# Altium footprint library ZJYM130-CH1115.PcbLib: 3 footprints
Each footprint in its own frame and in the unit in brackets; x right, y up, seen from the top. Pads: shape width x height; smd on the part's side, far side on the other; paste and mask are expansions set on the pad; w line width, h text height; cw(c..) or ccw(c..) is an arc to the next point about the centre after c.
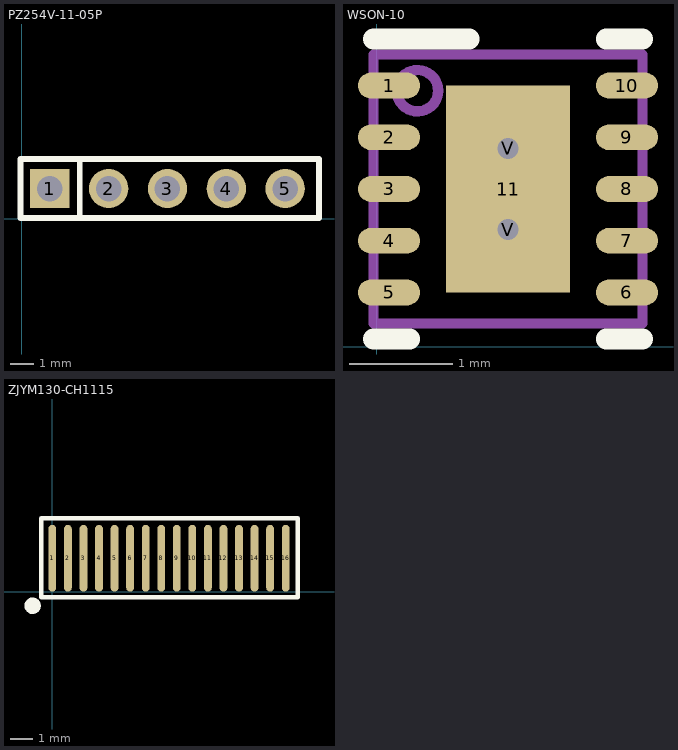
[diagram p0: the footprints below, top view; thin cyan lines are the x and y axes]

## PZ254V-11-05P [mm]
pads (5):
  rect 1.699x1.699 hole 1.1: 1(1.204,1.311)
  round 1.699 hole 1.1: 2(3.744,1.311) 3(6.284,1.311) 4(8.824,1.311) 5(11.364,1.311)
Top Overlay:
  lines w0.254: 2.497,0.041 2.497,2.581 ; 2.497,2.581 12.827,2.581 12.827,0.041 -0.066,0.041 -0.066,2.581 2.497,2.581
Mechanical 6:
  lines w0.051: -0.066,0.061 -0.066,2.56 12.827,2.56 12.827,0.061 -0.066,0.061
Mechanical 8:
  region: -0.005,0.061 -0.005,0.036 -0.041,0 -0.091,0 -0.127,0.036 -0.127,0.061 -0.127,0.086 -0.091,0.122 -0.041,0.122 -0.005,0.086
Mechanical 9:
  region: 0.884,1.631 1.524,1.631 1.524,0.991 0.884,0.991
  region: 3.424,1.631 4.064,1.631 4.064,0.991 3.424,0.991
  region: 5.964,1.631 6.604,1.631 6.604,0.991 5.964,0.991
  region: 8.504,1.631 9.144,1.631 9.144,0.991 8.504,0.991

## WSON-10 [mm]
pads (13):
  oval 0.6x0.25 smd paste+0 mask+0.051: 1(0.12,2.524) 2(0.12,2.024) 3(0.12,1.524) 4(0.12,1.024) 5(0.12,0.524) 6(2.42,0.524) 7(2.42,1.024) 8(2.42,1.524) 9(2.42,2.024) 10(2.42,2.524)
  rect 1.2x2 smd paste-0.6 mask+0.051: 11(1.27,1.524)
  round 0.5 hole 0.203 paste-0.25 mask+0.051: V(1.27,1.13) V(1.27,1.918)
Top Overlay:
  lines w0.2: -0.03,0.074 0.32,0.074 ; -0.03,2.974 0.895,2.974 ; 2.22,0.074 2.57,0.074 ; 2.22,2.974 2.57,2.974
Top Paste:
  region: 0.707,2.419 0.707,0.63 1.833,0.63 1.833,2.419
Top Solder:
  region: 1.27,0.524
  region: 1.27,2.524
  region: 1.933,0.46 1.47,0.46 1.47,2.588 1.933,2.588
  region: 1.07,0.46 0.607,0.46 0.607,2.588 1.07,2.588
  region: 1.933,0.46 0.607,0.46 0.607,0.93 1.933,0.93
  region: 1.933,1.33 0.607,1.33 0.607,1.718 1.933,1.718
  region: 1.933,2.118 0.607,2.118 0.607,2.588 1.933,2.588
Mechanical 13:
  circle w0.1: c0.395,2.474 r0.2
  lines w0.1: -0.03,0.224 -0.03,2.824 2.57,2.824 2.57,0.224 -0.03,0.224

## ZJYM130-CH1115 [mm]
pads (16):
  oval 0.35x3 smd: 1(0,1.5) 2(0.7,1.5) 3(1.4,1.5) 4(2.1,1.5) 5(2.8,1.5) 6(3.5,1.5) 7(4.2,1.5) 8(4.9,1.5) 9(5.6,1.5) 10(6.3,1.5) 11(7,1.5) 12(7.7,1.5) 13(8.4,1.5) 14(9.1,1.5) 15(9.8,1.5) 16(10.5,1.5)
Top Overlay:
  circle w0.381: c-0.889,-0.635 r0.18
  lines w0.203: -0.508,-0.254 11.049,-0.254 11.049,3.302 -0.508,3.302 -0.508,-0.254